# Altium footprint library LKMJ2502A681MF.PcbLib: 1 footprints
Each footprint in its own frame and in the unit in brackets; x right, y up, seen from the top. Pads: shape width x height; smd on the part's side, far side on the other; paste and mask are expansions set on the pad; w line width, h text height; cw(c..) or ccw(c..) is an arc to the next point about the centre after c.
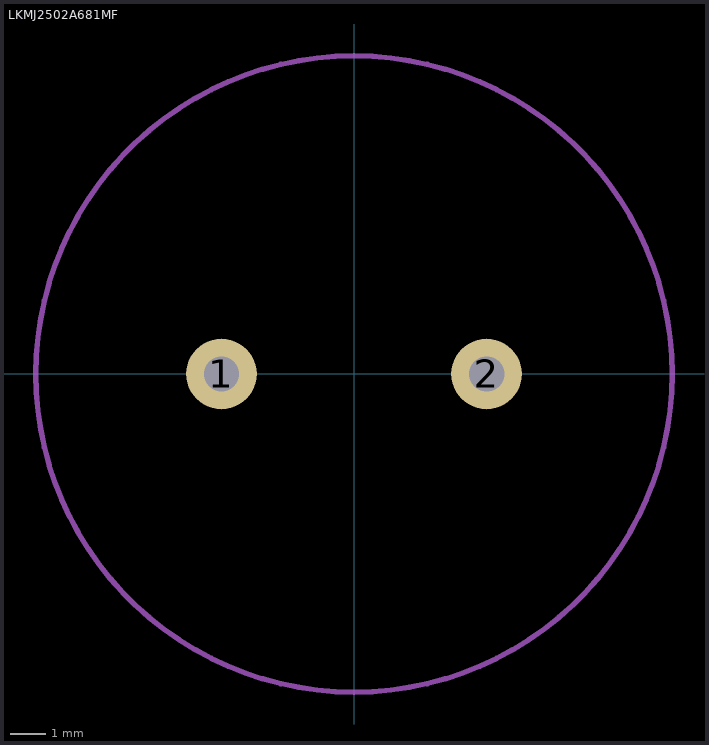
[diagram p0: the footprint, top view; thin cyan lines are the x and y axes]

## LKMJ2502A681MF [mm]
height 25
pads (2):
  round 2 hole 1: 1(-3.75,0) 2(3.75,0)
Mechanical 1:
  circle w0.15: c0,0 r9
3D body "LKMJ2502A681MF.step": height 25, standoff -2.8, extent -9,-8.983 9,8.983